# Altium schematic symbol library SCH-MCU-WCH-CH32F103C8U6-QFN48-7x7.SchLib: 1 symbol
Pins are listed as number, name and electrical type; pins without a type are passive.

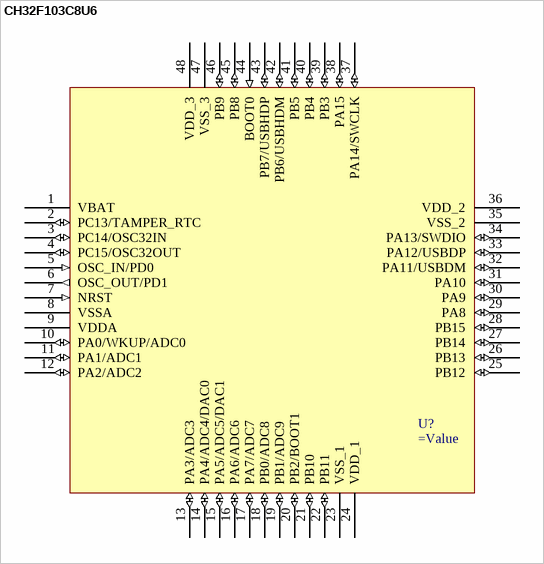
[diagram p0: symbol CH32F103C8U6]

## CH32F103C8U6
designator U?
pins: 1 VBAT (power), 2 PC13/TAMPER_RTC (io), 3 PC14/OSC32IN (io), 4 PC15/OSC32OUT (io), 5 OSC_IN/PD0 (in), 6 OSC_OUT/PD1 (out), 7 NRST (in), 8 VSSA (power), 9 VDDA (power), 10 PA0/WKUP/ADC0 (io), 11 PA1/ADC1 (io), 12 PA2/ADC2 (io), 13 PA3/ADC3 (io), 14 PA4/ADC4/DAC0 (io), 15 PA5/ADC5/DAC1 (io), 16 PA6/ADC6 (io), 17 PA7/ADC7 (io), 18 PB0/ADC8 (io), 19 PB1/ADC9 (io), 20 PB2/BOOT1 (io), 21 PB10 (io), 22 PB11 (io), 23 VSS_1 (power), 24 VDD_1 (power), 25 PB12 (io), 26 PB13 (io), 27 PB14 (io), 28 PB15 (io), 29 PA8 (io), 30 PA9 (io), 31 PA10 (io), 32 PA11/USBDM (io), 33 PA12/USBDP (io), 34 PA13/SWDIO (io), 35 VSS_2 (power), 36 VDD_2 (power), 37 PA14/SWCLK (io), 38 PA15 (io), 39 PB3 (io), 40 PB4 (io), 41 PB5 (io), 42 PB6/USBHDM (io), 43 PB7/USBHDP (io), 44 BOOT0 (in), 45 PB8 (io), 46 PB9 (io), 47 VSS_3 (power), 48 VDD_3 (power)
2 alternate drawings of the same symbol